# Altium footprint library PcbLib1.PcbLib: 19 footprints (part 2 of 2)
Each footprint in its own frame and in the unit in brackets; x right, y up, seen from the top. Pads: shape width x height; smd on the part's side, far side on the other; paste and mask are expansions set on the pad; w line width, h text height; cw(c..) or ccw(c..) is an arc to the next point about the centre after c.
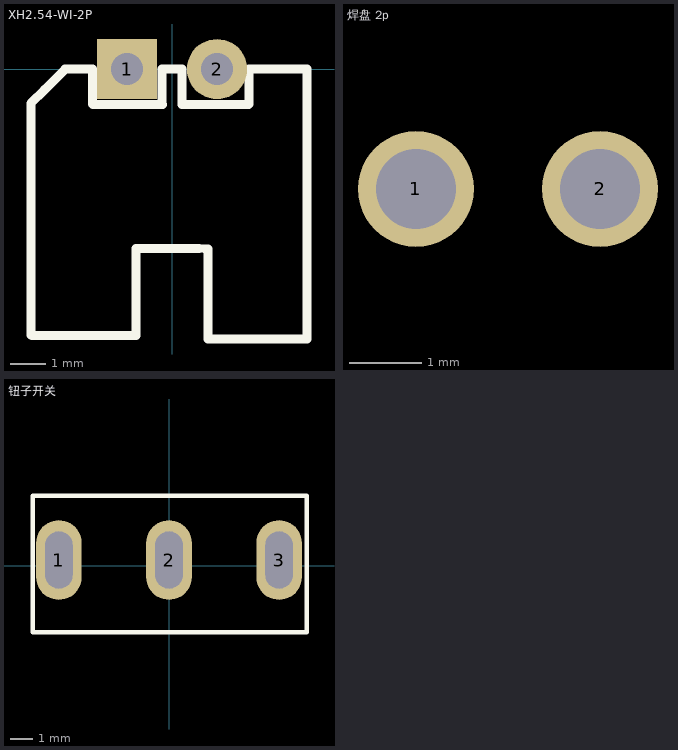
[diagram p1: the footprints below, top view; thin cyan lines are the x and y axes]

## XH2.54-WI-2P [mm] "接插件，2P"
pads (2):
  rect 1.7x1.7 hole 0.9: 1(-1.27,0)
  round 1.7 hole 0.9: 2(1.27,0)
Top Overlay:
  lines w0.254: 2.164,0 2.164,-0.988 2.15,-1.002 0.284,-1.002 0.284,0 -0.288,0 -0.288,-0.982 -0.274,-0.996 -2.23,-0.996 -2.244,-0.982 -2.244,0 -3.02,0 -3.602,-0.582 -3.986,-0.966 -3.986,-7.502 -3.96,-7.528 -1.016,-7.528 -1.016,-5.058 0.762,-5.058 1.016,-5.08 1.016,-7.62 1.27,-7.62 3.81,-7.62 3.81,0 2.774,0 2.176,0
3D body "XH2.54-2P_H.STEP": height 5.73, standoff -3.37, extent -3.77,-7.35 3.77,0.35

## 焊盘 2p [mm]
pads (2):
  round 1.6 hole 1.1: 1(-75.819,-31.75) 2(-73.279,-31.75)

## 钮子开关 [mm]
pads (3):
  oval 2x3.5 hole 1.2 slot 2.5 at 90 deg: 1(-4.826,0.254) 2(0,0.254) 3(4.826,0.254)
Top Overlay:
  lines w0.203: -5.969,-2.921 -5.969,3.079 6.031,3.079 6.031,-2.921 -5.969,-2.921
3D body "User Library-7101SYZQE_switch-toggle.step": height 28.7, standoff -3.69, extent -6.35,-4.826 6.364,5.334